# Altium schematic symbol library USB2513B-QFN36.SchLib: 1 symbol
Pins are listed as number, name and electrical type; pins without a type are passive.

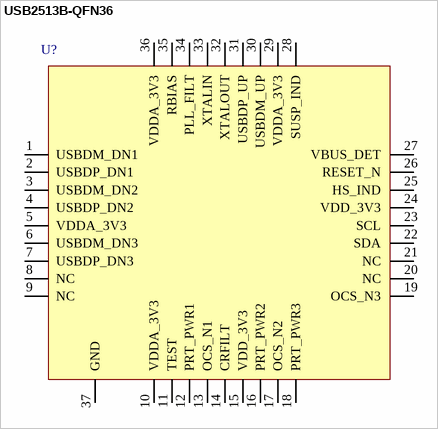
[diagram p0: symbol USB2513B-QFN36]

## USB2513B-QFN36
designator U?  (value not drawn)
pins: 1 USBDM_DN1, 2 USBDP_DN1, 3 USBDM_DN2, 4 USBDP_DN2, 5 VDDA_3V3, 6 USBDM_DN3, 7 USBDP_DN3, 8 NC, 9 NC, 10 VDDA_3V3, 11 TEST, 12 PRT_PWR1, 13 OCS_N1, 14 CRFILT, 15 VDD_3V3, 16 PRT_PWR2, 17 OCS_N2, 18 PRT_PWR3, 19 OCS_N3, 20 NC, 21 NC, 22 SDA, 23 SCL, 24 VDD_3V3, 25 HS_IND, 26 RESET_N, 27 VBUS_DET, 28 SUSP_IND, 29 VDDA_3V3, 30 USBDM_UP, 31 USBDP_UP, 32 XTALOUT, 33 XTALIN, 34 PLL_FILT, 35 RBIAS, 36 VDDA_3V3, 37 GND